# Altium footprint library FootPrintLib.PcbLib: 42 footprints (part 2 of 3)
Each footprint in its own frame and in the unit in brackets; x right, y up, seen from the top. Pads: shape width x height; smd on the part's side, far side on the other; paste and mask are expansions set on the pad; w line width, h text height; cw(c..) or ccw(c..) is an arc to the next point about the centre after c.
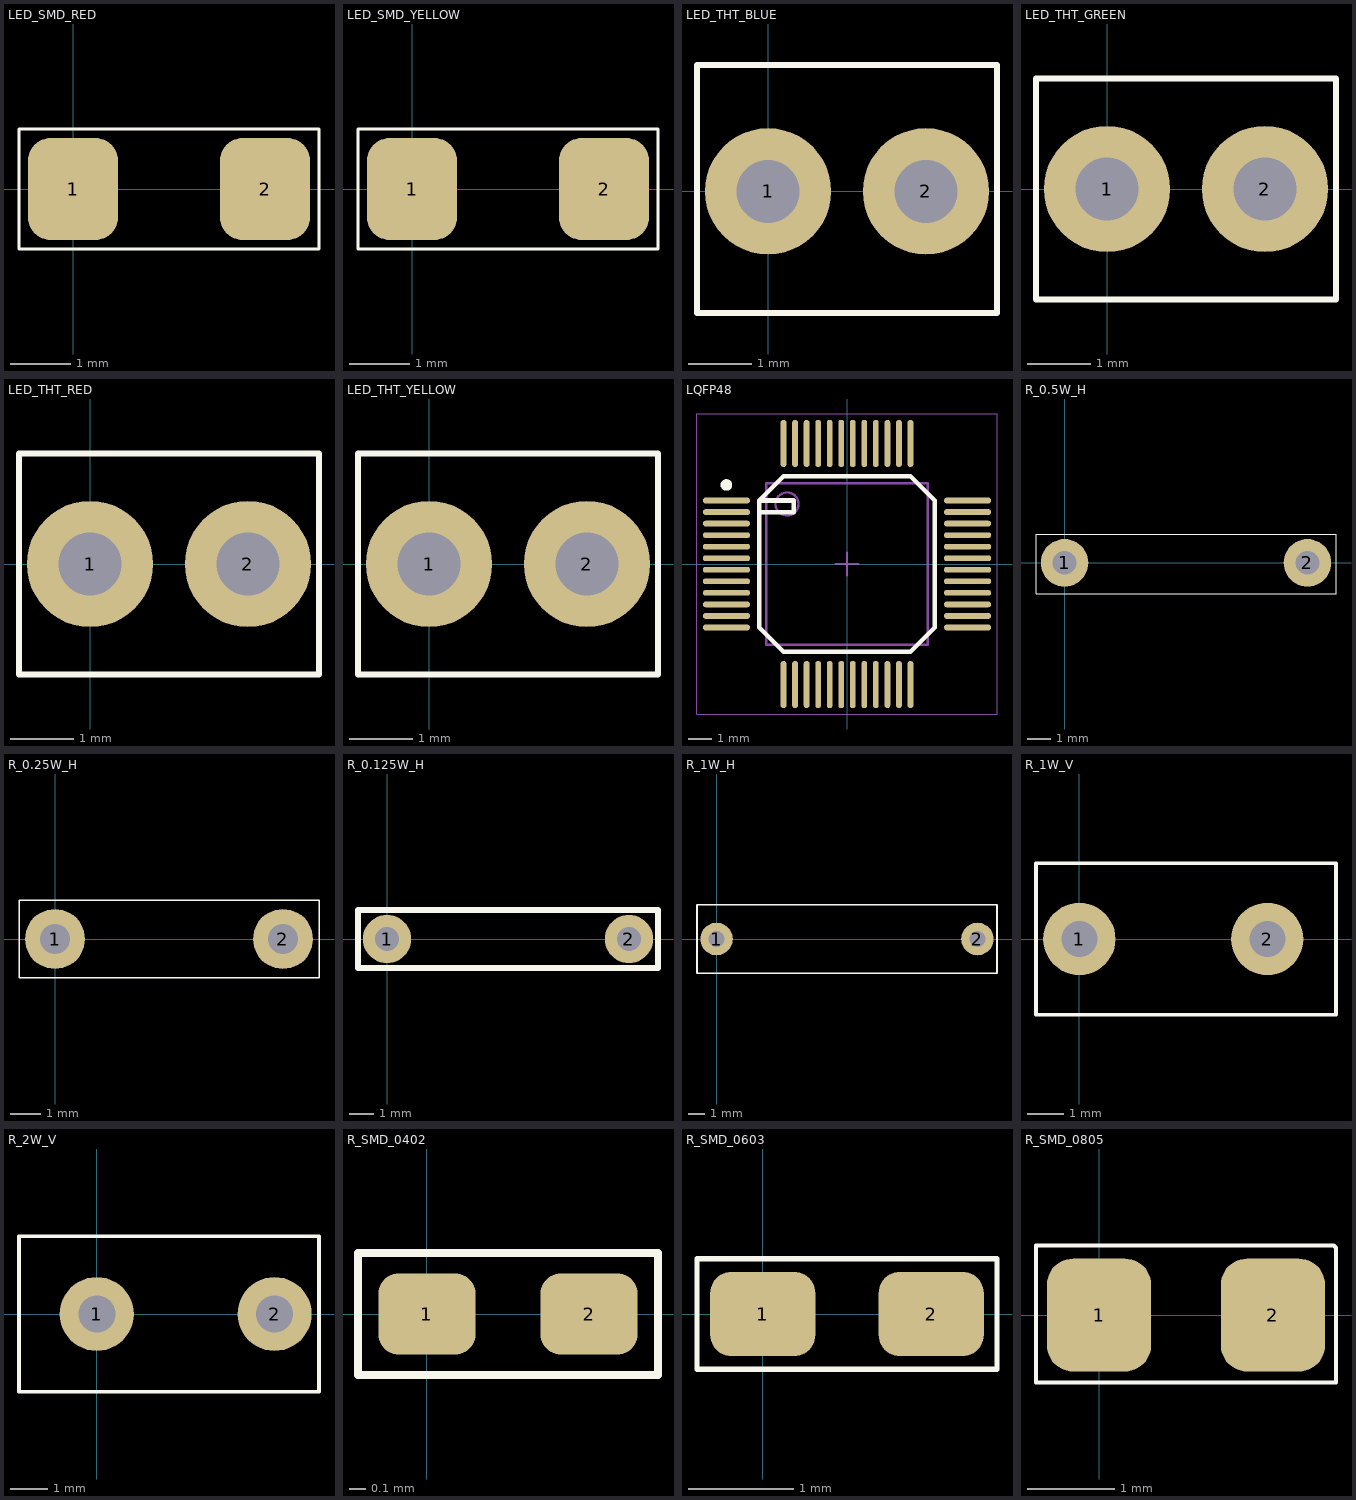
[diagram p1: the footprints below, top view; thin cyan lines are the x and y axes]

## LED_SMD_RED [mm]
pads (2):
  rrect50% 1.5x1.7 smd: 1(0,0) 2(3.2,0)
Top Overlay:
  lines w0.05: -0.9,-1 -0.9,1 4.1,1 4.1,-1 -0.9,-1
3D body "LED_1206_Red.stp": height 0.9, standoff 0, extent -0.01,-0.825 3.26,0.825

## LED_SMD_YELLOW [mm]
pads (2):
  rrect50% 1.5x1.7 smd: 1(0,0) 2(3.2,0)
Top Overlay:
  lines w0.05: -0.9,-1 -0.9,1 4.1,1 4.1,-1 -0.9,-1
3D body "LED_1206_Yellow.stp": height 0.9, standoff 0, extent -0.035,-0.825 3.235,0.825

## LED_THT_BLUE [mm]
pads (2):
  round 2 hole 1: 1(0,0) 2(2.5,0)
Top Overlay:
  lines w0.1: -1.125,-1.925 -1.125,0.125 -1.125,2 3.625,2 3.625,-1.925 -1.125,-1.925
3D body "LED 3mm Blue 3mm Leads.step": height 5.69, standoff -2.69, extent -0.423,-1.9 3.022,1.95

## LED_THT_GREEN [mm]
pads (2):
  round 2 hole 1: 1(0,0) 2(2.5,0)
Top Overlay:
  lines w0.1: -1.125,-1.75 -1.125,1.75 3.625,1.75 3.625,-1.75 -1.125,-1.75
3D body "LED 3mm Green.STEP": height 4.5, standoff -2, extent -0.381,-1.75 2.95,1.75

## LED_THT_RED [mm]
pads (2):
  round 2 hole 1: 1(0,0) 2(2.5,0)
Top Overlay:
  lines w0.1: -1.125,-1.75 3.625,-1.75 3.625,1.75 -1.125,1.75 -1.125,-1.75
3D body "LED 3mm RED.STEP": height 5, standoff -1.5, extent -0.331,-1.75 3,1.75

## LED_THT_YELLOW [mm]
pads (2):
  round 2 hole 1: 1(0,0) 2(2.5,0)
Top Overlay:
  lines w0.1: -1.125,-1.75 3.625,-1.75 3.625,1.75 -1.125,1.75 -1.125,-1.75
3D body "LED 3mm Yellow.STEP": height 5, standoff -1.5, extent -0.281,-1.75 3.05,1.75

## LQFP48 [mm]
height 1.4
pads (48):
  oval 2.05x0.25 smd: 1(-5.225,2.75) 2(-5.225,2.25) 3(-5.225,1.75) 4(-5.225,1.25) 5(-5.225,0.75) 6(-5.225,0.25) 7(-5.225,-0.25) 8(-5.225,-0.75) 9(-5.225,-1.25) 10(-5.225,-1.75) 11(-5.225,-2.25) 12(-5.225,-2.75) 25(5.225,-2.75) 26(5.225,-2.25) 27(5.225,-1.75) 28(5.225,-1.25) 29(5.225,-0.75) 30(5.225,-0.25) 31(5.225,0.25) 32(5.225,0.75) 33(5.225,1.25) 34(5.225,1.75) 35(5.225,2.25) 36(5.225,2.75)
  oval 0.25x2.05 smd: 13(-2.75,-5.225) 14(-2.25,-5.225) 15(-1.75,-5.225) 16(-1.25,-5.225) 17(-0.75,-5.225) 18(-0.25,-5.225) 19(0.25,-5.225) 20(0.75,-5.225) 21(1.25,-5.225) 22(1.75,-5.225) 23(2.25,-5.225) 24(2.75,-5.225) 37(2.75,5.225) 38(2.25,5.225) 39(1.75,5.225) 40(1.25,5.225) 41(0.75,5.225) 42(0.25,5.225) 43(-0.25,5.225) 44(-0.75,5.225) 45(-1.25,5.225) 46(-1.75,5.225) 47(-2.25,5.225) 48(-2.75,5.225)
Top Overlay:
  circle w0.25: c-5.225,3.425 r0.125
  lines w0.2: -3.8,2.25 -2.3,2.25 -2.3,2.75 -3.8,2.75 ; -3.8,2.75 -2.75,3.8 2.75,3.8 3.8,2.75 3.8,-2.75 2.75,-3.8 -2.75,-3.8 -3.8,-2.75 -3.8,2.75
Mechanical 13:
  circle w0.1: c-2.6,2.6 r0.5
  lines w0.1: -3.5,-3.5 3.5,-3.5 3.5,3.5 -3.5,3.5 -3.5,-3.5
Mechanical 15:
  lines w0.05: -6.5,-6.5 6.5,-6.5 6.5,6.5 -6.5,6.5 -6.5,-6.5
  lines w0.1: -0.5,0 0.5,0 ; 0,-0.5 0,0.5
3D body: height 1.4, standoff 0.13, extent -3.5,-3.5 3.5,3.5

## R_0.5W_H [mm]
pads (2):
  round 2 hole 1: 1(0,0) 2(10.2,0)
Top Overlay:
  lines w0.05: -1.2,-1.3 11.4,-1.3 11.4,1.2 -1.2,1.2 -1.2,-1.3
3D body "0.5w.STEP": height 3.15, standoff -1.75, extent -0.284,-1.183 10.484,1.1

## R_0.25W_H [mm]
pads (2):
  round 2 hole 1: 1(0,0) 2(7.6,0)
Top Overlay:
  lines w0.05: -1.2,-1.3 -1.2,1.3 8.8,1.3 8.8,-1.3 -1.2,-1.3
3D body "0.25W.step": height 2.87, standoff -3, extent -0.2,-1.161 7.8,1.161

## R_0.125W_H [mm]
pads (2):
  round 2 hole 1: 1(0,0) 2(10,0)
Top Overlay:
  lines w0.254: -1.2,-1.2 11.2,-1.2 11.2,1.2 -1.2,1.2 -1.2,-1.2
3D body "Resistor_С1-4_horizontal_0.25W_10pitch.stp": height 2.5, standoff -3, extent -0.3,-1.142 10.3,1.142

## R_1W_H [mm]
pads (2):
  round 2 hole 1: 1(0,0) 2(16,0)
Top Overlay:
  lines w0.1: -1.2,-2.1 -1.2,2.1 17.2,2.1 17.2,-2.1 -1.2,-2.1
3D body "1W.step": height 4, standoff -3, extent -0.3,-1.994 16.4,1.994

## R_1W_V [mm]
pads (2):
  round 2 hole 1: 1(0,0) 2(5.2,0)
Top Overlay:
  lines w0.1: -1.2,-2.1 -1.2,2.1 7.1,2.1 7.1,-2.1 -1.2,-2.1
3D body "1WV.step": height 16.84, standoff -1, extent -0.3,-1.994 7.047,1.994

## R_2W_V [mm]
pads (2):
  round 2 hole 1: 1(0,0) 2(4.8,0)
Top Overlay:
  lines w0.1: -2.1,-2.1 6,-2.1 6,2.1 -2.1,2.1 -2.1,-2.1
3D body "2WV.STEP": height 13.38, standoff -4, extent -1.999,-2 5.354,2

## R_SMD_0402 [mm]
pads (2):
  rrect50% 0.6x0.5 smd: 1(0,0) 2(1,0)
Top Overlay:
  lines w0.05: -0.425,-0.375 1.425,-0.375 1.425,0.375 -0.425,0.375 -0.425,-0.375
3D body "RES0402.stp": height 0.3, standoff 0, extent 0,-0.25 1,0.25

## R_SMD_0603 [mm]
pads (2):
  rrect50% 1x0.8 smd: 1(0,0) 2(1.6,0)
Top Overlay:
  lines w0.05: -0.625,-0.525 2.225,-0.525 2.225,0.525 -0.625,0.525 -0.625,-0.525
3D body "RES0603.stp": height 0.45, standoff 0, extent 0,-0.4 1.6,0.4

## R_SMD_0805 [mm]
pads (2):
  rrect50% 1.2x1.3 smd: 1(0,0) 2(2,0)
Top Overlay:
  lines w0.05: -0.725,-0.775 2.725,-0.775 2.725,0.775 2.7,0.8 -0.725,0.8 -0.725,-0.775
3D body "RES0805.stp": height 0.5, standoff 0, extent 0,-0.62 2,0.63